# EAGLE library part SN74VC2G (library lbm)
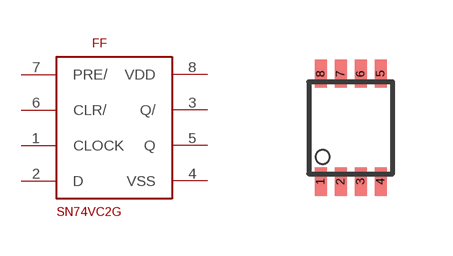
[diagram p31: symbol with the pads of SN74VC2G; footprint SN74VC2G]

Designator prefix FF

## SN74VC2G  [SN74VC2G]
1  CLOCK
2  D
3  Q/
4  VSS
5  Q
6  CLR/
7  PRE/
8  VDD

## Footprint SN74VC2G (pad centres in mm)
smd 0.3 x 0.7: 1 0.3,-2.5; 2 0.8,-2.5; 3 1.3,-2.5; 4 1.8,-2.5; 5 1.8,0.2; 6 1.3,0.2; 7 0.8,0.2; 8 0.3,0.2